# Altium footprint library PMGlibPCB.PcbLib: 33 footprints (part 3 of 3)
Each footprint in its own frame and in the unit in brackets; x right, y up, seen from the top. Pads: shape width x height; smd on the part's side, far side on the other; paste and mask are expansions set on the pad; w line width, h text height; cw(c..) or ccw(c..) is an arc to the next point about the centre after c.
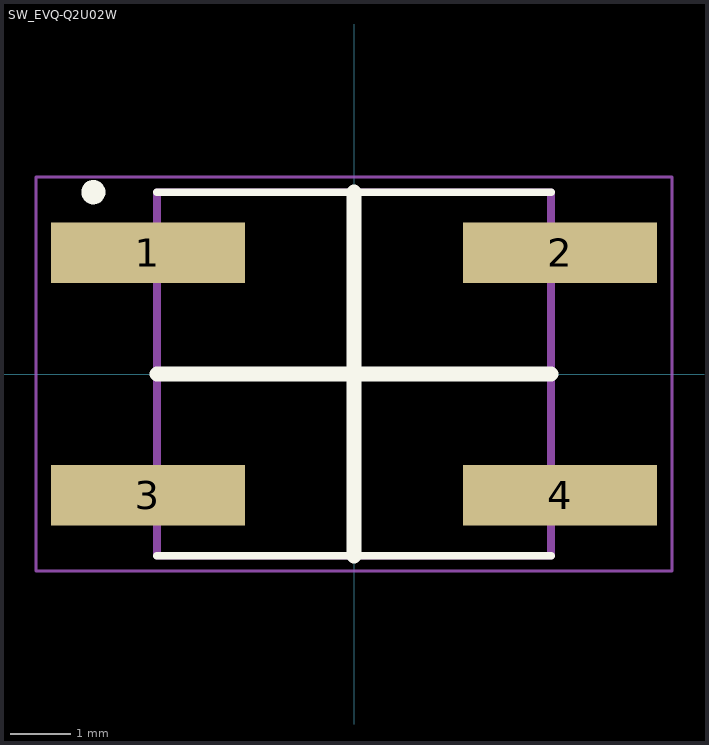
[diagram p2: the footprint, top view; thin cyan lines are the x and y axes]

## SW_EVQ-Q2U02W [mm] "SWITCH"
height 2.25
pads (4):
  rect 3.2x1 smd: 1(-3.4,2) 2(3.4,2) 3(-3.4,-2) 4(3.4,-2)
Top Overlay:
  circle w0.2: c-4.3,3 r0.1
  lines w0.127: -3.25,-3 3.25,-3 ; -3.25,3 3.25,3
  lines w0.254: -3.25,0 3.25,0 ; 0,-3 0,3
3D Top:
  lines w0.127: -3.25,-3 -3.25,3 3.25,3 3.25,-3 -3.25,-3
Courtyard Top:
  lines w0.05: -5.25,-3.25 -5.25,3.25 5.25,3.25 5.25,-3.25 -5.25,-3.25
3D body: height 1.8, standoff 0, extent -3.25,-3 3.25,3
3D body: height 2.3, standoff 1.8, extent -1.9,-1.897 1.9,1.897